# Altium footprint library Generic 1206 Resistor.PcbLib: 1 footprints
Each footprint in its own frame and in the unit in brackets; x right, y up, seen from the top. Pads: shape width x height; smd on the part's side, far side on the other; paste and mask are expansions set on the pad; w line width, h text height; cw(c..) or ccw(c..) is an arc to the next point about the centre after c.
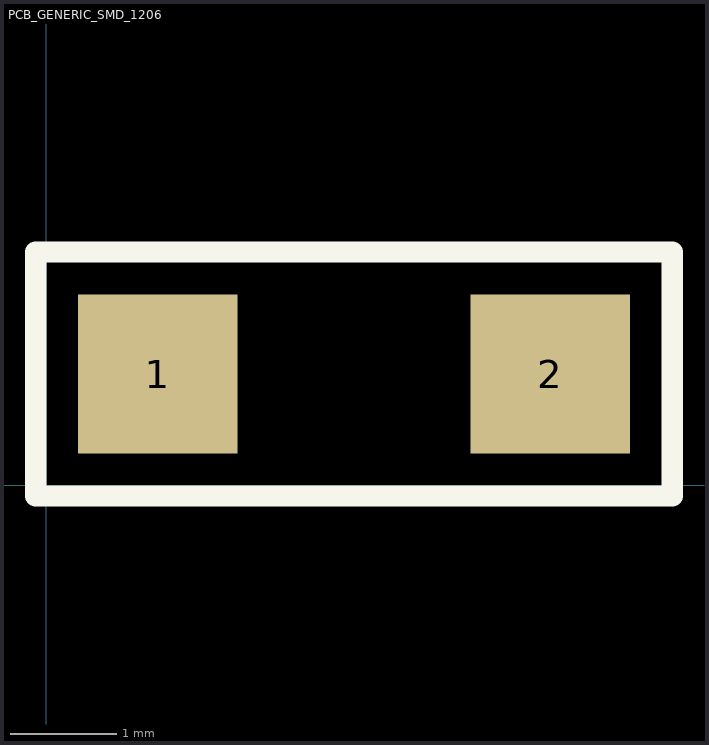
[diagram p0: the footprint, top view; thin cyan lines are the x and y axes]

## PCB_GENERIC_SMD_1206 [mm] "Generic 1206 SMD footprint"
pads (2):
  rect 1.5x1.5 smd: 1(1.05,1.05) 2(4.75,1.05)
Top Overlay:
  lines w0.2: -0.1,-0.1 5.9,-0.1 5.9,2.2 -0.1,2.2 -0.1,-0.1